# EAGLE library part COMMODORE_IEEE-488_PORT_CARD_EDGE (library commodore-card-edges)
Commodore 24-Contact (12 top + 12 bottom) IEEE-488 Port Card-Edge. Contacts are 0.09" x 0.35" on a 0.156" pitch. Contacts are numbered 1 to 12 on top and A to N on bottom (excludes G and I). Contacts 1 and A are on same end of card-edge. There is a 0.066" gap between contacts 2/B and 3/C and 9/K and10/L. Card edge protrudes 0.55" from main circuit board.
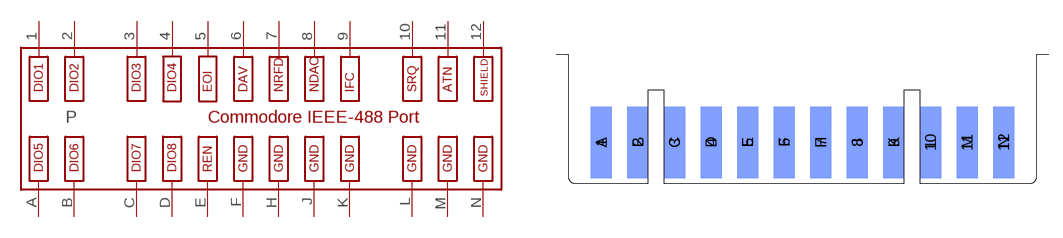
[diagram p1: symbol with the pads of COMMODORE_IEEE-488_PORT_CARD_EDGE; footprint COMMODORE_IEEE-488_PORT_CARD_EDGE]

Designator prefix P

## COMMODORE_IEEE-488_PORT_CARD_EDGE  [COMMODORE_IEEE-488_PORT_CARD_EDGE]
1  DIO1
2  DIO2
3  DIO3
4  DIO4
5  EOI
6  DAV
7  NRFD
8  NDAC
9  IFC
10  SRQ
11  ATN
12  SHIELD  pwr
A  DIO5
B  DIO6
C  DIO7
D  DIO8
E  REN
F  GND  pwr
H  GND  pwr
J  GND  pwr
K  GND  pwr
L  GND  pwr
M  GND  pwr
N  GND  pwr

## Footprint COMMODORE_IEEE-488_PORT_CARD_EDGE (pad centres in mm)
Commodore 24-Contact (12 top + 12 bottom) IEEE-488 Port Card-Edge. Contacts are 0.09" x 0.35" on a 0.156" pitch. Contacts are numbered 1 to 12 on top and A to N on bottom (excludes G and I). Contacts 1 and A are on same end of card-edge. There is a 0.066" gap between contacts 2/B and 3/C and 9/K and10/L. Card edge protrudes 0.55" from main circuit board.
smd 2.286 x 7.747: 1 -19.812,0; 2 -15.85,0; 3 -11.887,0; 4 -7.925,0; 5 -3.962,0; 6 0,0; 7 3.962,0; 8 7.925,0; 9 11.887,0; 10 15.85,0; 11 19.812,0; 12 23.774,0
smd 2.286 x 7.747 bottom: A -19.812,0; B -15.85,0; C -11.887,0; D -7.925,0; E -3.962,0; F 0,0; H 3.962,0; J 7.925,0; K 11.887,0; L 15.85,0; M 19.812,0; N 23.774,0